# EAGLE library part ARDUINO (library untitled)
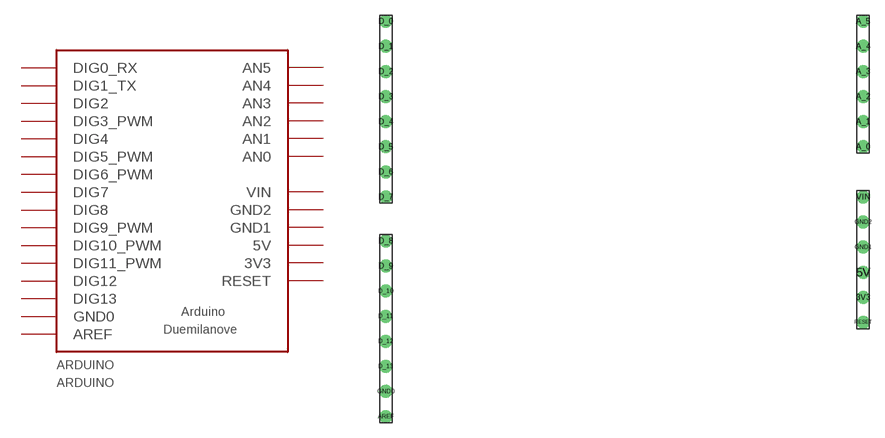
[diagram p6: symbol with the pads of ARDUINO; footprint ARDUINO]

Designator prefix ARDUINO

## ARDUINO  [ARDUINO]
3V3  3V3
5V  5V
A_0  AN0  in
A_1  AN1  in
A_2  AN2  in
A_3  AN3  in
A_4  AN4  in
A_5  AN5  in
AREF  AREF
D_0  DIG0_RX
D_1  DIG1_TX
D_2  DIG2
D_3  DIG3_PWM
D_4  DIG4
D_5  DIG5_PWM
D_6  DIG6_PWM
D_7  DIG7
D_8  DIG8
D_9  DIG9_PWM
D_10  DIG10_PWM
D_11  DIG11_PWM
D_12  DIG12
D_13  DIG13
GND0  GND0  sup
GND1  GND1  sup
GND2  GND2  sup
RESET  RESET  in
VIN  VIN  pwr

## Footprint ARDUINO (pad centres in mm)
drill 0.8 round: 3V3 25.4,-12.7; 5V 25.4,-10.16; A_0 25.4,2.54; A_1 25.4,5.08; A_2 25.4,7.62; A_3 25.4,10.16; A_4 25.4,12.7; A_5 25.4,15.24; AREF -22.86,-24.765; D_0 -22.86,15.24; D_1 -22.86,12.7; D_2 -22.86,10.16; D_3 -22.86,7.62; D_4 -22.86,5.08; D_5 -22.86,2.54; D_6 -22.86,0; D_7 -22.86,-2.54; D_8 -22.86,-6.985; D_9 -22.86,-9.525; D_10 -22.86,-12.065; D_11 -22.86,-14.605; D_12 -22.86,-17.145; D_13 -22.86,-19.685; GND0 -22.86,-22.225; GND1 25.4,-7.62; GND2 25.4,-5.08; RESET 25.4,-15.24; VIN 25.4,-2.54